# Altium footprint library ESDA7P120-1U1M.PcbLib: 3 footprints
Each footprint in its own frame and in the unit in brackets; x right, y up, seen from the top. Pads: shape width x height; smd on the part's side, far side on the other; paste and mask are expansions set on the pad; w line width, h text height; cw(c..) or ccw(c..) is an arc to the next point about the centre after c.
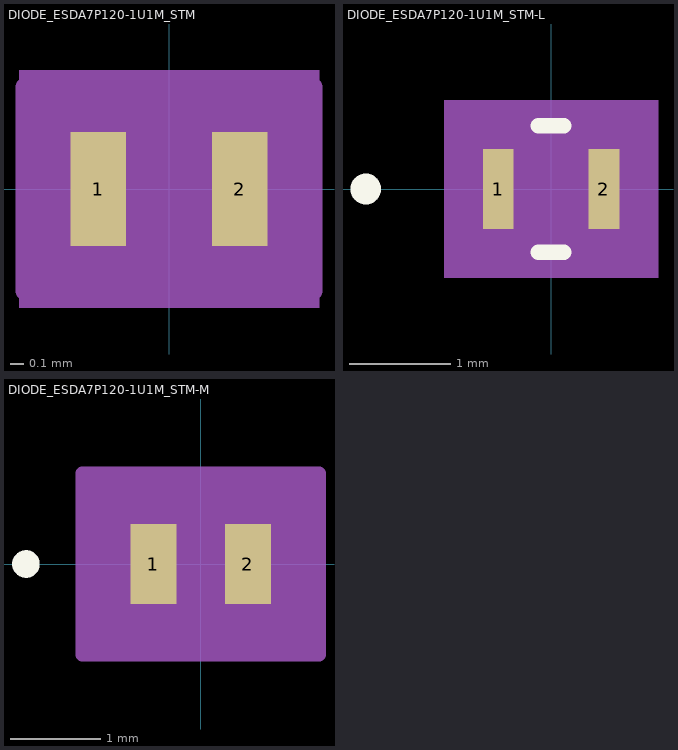
[diagram p0: the footprints below, top view; thin cyan lines are the x and y axes]

## DIODE_ESDA7P120-1U1M_STM [mil]
pads (2):
  rect 16x33 smd paste+0 mask+0: 1(-20.54,0) 2(20.54,0)
Mechanical 5:
  region: 43.54,-34.5 -43.54,-34.5 -43.54,34.5 43.54,34.5
Mechanical 13:
  circle w0: c0,0 r0
  lines w1: -31.5,-19.5 31.5,-19.5 31.5,19.5 -31.5,19.5 -31.5,-19.5
Mechanical 15:
  region: -41.5,-26.5 -41.5,26.5 -41.5,29.5 41.5,29.5 41.5,26.5 41.5,-26.5 41.5,-29.5 -41.5,-29.5
  lines w6: -41.5,-26.5 -41.5,26.5 ; -41.5,-26.5 -41.5,-26.5 ; -41.5,-26.5 -41.5,-29.5 41.5,-29.5 41.5,-26.5 ; -41.5,26.5 -41.5,26.5 ; -41.5,26.5 -41.5,29.5 41.5,29.5 41.5,26.5 ; 41.5,-26.5 41.5,26.5 ; 41.5,-26.5 41.5,-26.5 ; 41.5,26.5 41.5,26.5
3D body "DIODE_ESDA7P120-1U1M_STM.step": height 24.09, standoff 0, extent -31.5,-19.49 31.5,19.49

## DIODE_ESDA7P120-1U1M_STM-L [mil]
pads (2):
  rect 12x31 smd paste+0 mask+0: 1(-20.54,0) 2(20.54,0)
Top Overlay:
  circle w6: c-72.04,0 r3
  lines w6: -5.02,-24.5 5.02,-24.5 ; -5.02,24.5 5.02,24.5
Mechanical 5:
  region: 41.54,-34.5 -41.54,-34.5 -41.54,34.5 41.54,34.5
Mechanical 13:
  circle w0: c0,0 r3
  lines w1: -31.5,-19.5 31.5,-19.5 31.5,19.5 -31.5,19.5 -31.5,-19.5
Mechanical 15:
  region: -35.5,-19.5 -35.5,19.5 -35.5,23.5 35.5,23.5 35.5,19.5 35.5,-19.5 35.5,-23.5 -35.5,-23.5
  lines w6: -35.5,-19.5 -35.5,19.5 ; -35.5,-19.5 -35.5,-19.5 ; -35.5,-19.5 -35.5,-23.5 35.5,-23.5 35.5,-19.5 ; -35.5,19.5 -35.5,19.5 ; -35.5,19.5 -35.5,23.5 35.5,23.5 35.5,19.5 ; 35.5,-19.5 35.5,19.5 ; 35.5,-19.5 35.5,-19.5 ; 35.5,19.5 35.5,19.5
3D body "DIODE_ESDA7P120-1U1M_STM.step": height 24.09, standoff 0, extent -31.5,-19.49 31.5,19.49

## DIODE_ESDA7P120-1U1M_STM-M [mil]
pads (2):
  rect 20x35 smd paste+0 mask+0: 1(-20.54,0) 2(20.54,0)
Top Overlay:
  circle w6: c-76.04,0 r3
Mechanical 5:
  region: 45.54,-34.5 -45.54,-34.5 -45.54,34.5 45.54,34.5
Mechanical 13:
  circle w0: c0,0 r3
  lines w1: -31.5,-19.5 31.5,-19.5 31.5,19.5 -31.5,19.5 -31.5,-19.5
Mechanical 15:
  region: -51.5,-37.5 -51.5,37.5 -51.5,39.5 51.5,39.5 51.5,37.5 51.5,-37.5 51.5,-39.5 -51.5,-39.5
  lines w6: -51.5,-37.5 -51.5,37.5 ; -51.5,-37.5 -51.5,-37.5 ; -51.5,-37.5 -51.5,-39.5 51.5,-39.5 51.5,-37.5 ; -51.5,37.5 -51.5,37.5 ; -51.5,37.5 -51.5,39.5 51.5,39.5 51.5,37.5 ; 51.5,-37.5 51.5,37.5 ; 51.5,-37.5 51.5,-37.5 ; 51.5,37.5 51.5,37.5
3D body "DIODE_ESDA7P120-1U1M_STM.step": height 24.09, standoff 0, extent -31.5,-19.49 31.5,19.49